# EAGLE library part MC9S08QG8 (library xess)
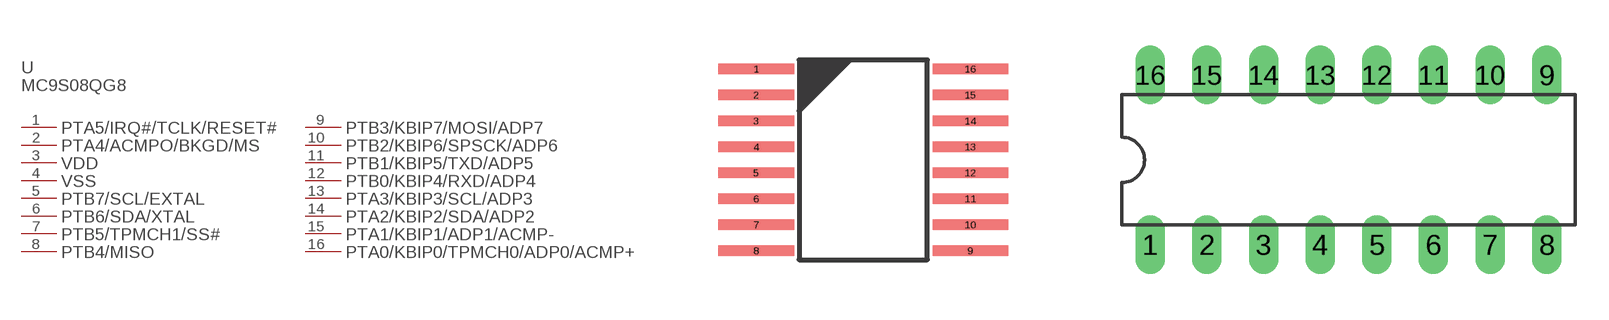
[diagram p81: symbol with the pads of MC9S08QG8; footprints MC9S08QG8, DIL16]

Designator prefix U; gates PART_VALUE=PART_VALUE-MC9S08QG8 PTA5/IRQ#/TCLK/RESET#=PL-MC9S08QG8 PTA4/ACMPO/BKGD/MS=PL-MC9S08QG8 VDD=PL-MC9S08QG8 VSS=PL-MC9S08QG8 PTB7/SCL/EXTAL=PL-MC9S08QG8 PTB6/SDA/XTAL=PL-MC9S08QG8 PTB5/TPMCH1/SS#=PL-MC9S08QG8 PTB4/MISO=PL-MC9S08QG8 PTB3/KBIP7/MOSI/ADP7=PL-MC9S08QG8 PTB2/KBIP6/SPSCK/ADP6=PL-MC9S08QG8 PTB1/KBIP5/TXD/ADP5=PL-MC9S08QG8 PTB0/KBIP4/RXD/ADP4=PL-MC9S08QG8 PTA3/KBIP3/SCL/ADP3=PL-MC9S08QG8 PTA2/KBIP2/SDA/ADP2=PL-MC9S08QG8 PTA1/KBIP1/ADP1/ACMP-=PL-MC9S08QG8 PTA0/KBIP0/TPMCH0/ADP0/ACMP+=PL-MC9S08QG8

## MC9S08QG8TSSOP16  [MC9S08QG8]
1  PTA5/IRQ#/TCLK/RESET#:P$1
2  PTA4/ACMPO/BKGD/MS:P$1
3  VDD:P$1
4  VSS:P$1
5  PTB7/SCL/EXTAL:P$1
6  PTB6/SDA/XTAL:P$1
7  PTB5/TPMCH1/SS#:P$1
8  PTB4/MISO:P$1
9  PTB3/KBIP7/MOSI/ADP7:P$1
10  PTB2/KBIP6/SPSCK/ADP6:P$1
11  PTB1/KBIP5/TXD/ADP5:P$1
12  PTB0/KBIP4/RXD/ADP4:P$1
13  PTA3/KBIP3/SCL/ADP3:P$1
14  PTA2/KBIP2/SDA/ADP2:P$1
15  PTA1/KBIP1/ADP1/ACMP-:P$1
16  PTA0/KBIP0/TPMCH0/ADP0/ACMP+:P$1

## MC9S08QG8PDIP16  [DIL16]
Pads as for MC9S08QG8

## Footprint MC9S08QG8 (pad centres in mm)
smd 1.89 x 0.27: 1 -0.11,0; 2 -0.11,-0.65; 3 -0.11,-1.3; 4 -0.11,-1.95; 5 -0.11,-2.6; 6 -0.11,-3.25; 7 -0.11,-3.9; 8 -0.11,-4.55; 9 5.24,-4.55; 10 5.24,-3.9; 11 5.24,-3.25; 12 5.24,-2.6; 13 5.24,-1.95; 14 5.24,-1.3; 15 5.24,-0.65; 16 5.24,0

## Footprint DIL16 (pad centres in mm)
Dual In Line Package
drill 0.813 long: 1 -8.89,-3.81; 2 -6.35,-3.81; 3 -3.81,-3.81; 4 -1.27,-3.81; 5 1.27,-3.81; 6 3.81,-3.81; 7 6.35,-3.81; 8 8.89,-3.81; 9 8.89,3.81; 10 6.35,3.81; 11 3.81,3.81; 12 1.27,3.81; 13 -1.27,3.81; 14 -3.81,3.81; 15 -6.35,3.81; 16 -8.89,3.81